# Altium schematic symbol library Switch.SchLib: 1 symbol
Pins are listed as number, name and electrical type; pins without a type are passive.

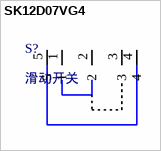
[diagram p0: symbol SK12D07VG4]

## SK12D07VG4
designator S?, comment 滑动开关
3脚2挡位 See from https://item.szlcsc.com/372549.html for details; ComponentLink1Description: LC; ComponentLink1URL: https://item.szlcsc.com/372549.html
footprint Switch
pins: 1, 2, 3, 4, 5